# EAGLE library part MCP9808 (library Richard_Boards)
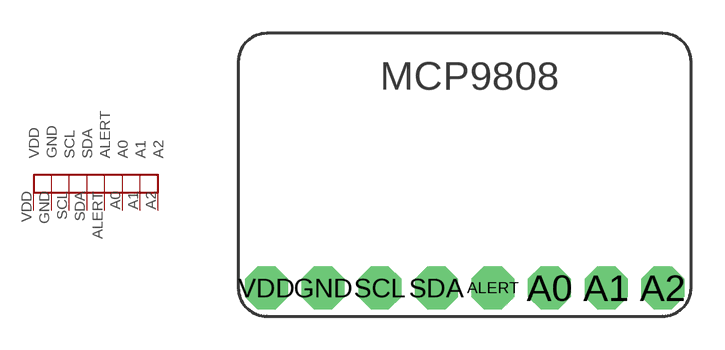
[diagram p14: symbol with the pads of MCP9808; footprint MCP9808]

Designator prefix -

## MCP9808  [MCP9808]
A0  A0  pas
A1  A1  pas
A2  A2  pas
ALERT  ALERT  pas
GND  GND  pas
SCL  SCL  pas
SDA  SDA  pas
VDD  VDD  pas

## Footprint MCP9808 (pad centres in mm)
MCP9808
drill 1.016 pad 1.93 octagon: A0 12.7,0; A1 15.24,0; A2 17.78,0; ALERT 10.16,0; GND 2.54,0; SCL 5.08,0; SDA 7.62,0; VDD 0,0